# EAGLE library part TPS735XX (library logic-supply)
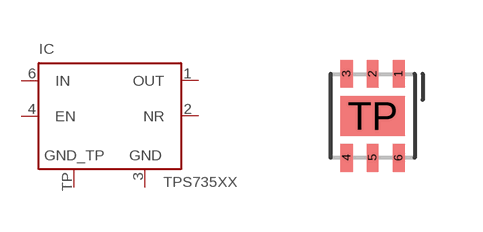
[diagram p46: symbol with the pads of SON6-TP; footprint SON6-TP]

Designator prefix IC

## TPS735XXDRV  [SON6-TP]
1  OUT
2  NR
3  GND
4  EN
6  IN
TP  GND

## Footprint SON6-TP (pad centres in mm)
smd 0.3 x 0.7: 1 0.65,1.05; 2 0,1.05; 3 -0.65,1.05; 4 -0.65,-1.05; 5 0,-1.05; 6 0.65,-1.05
smd 1.6 x 1: TP 0,0